# Altium footprint library MLACHQ_S.PCBLIB: 155 footprints (part 1 of 10)
Each footprint in its own frame and in the unit in brackets; x right, y up, seen from the top. Pads: shape width x height; smd on the part's side, far side on the other; paste and mask are expansions set on the pad; w line width, h text height; cw(c..) or ccw(c..) is an arc to the next point about the centre after c.
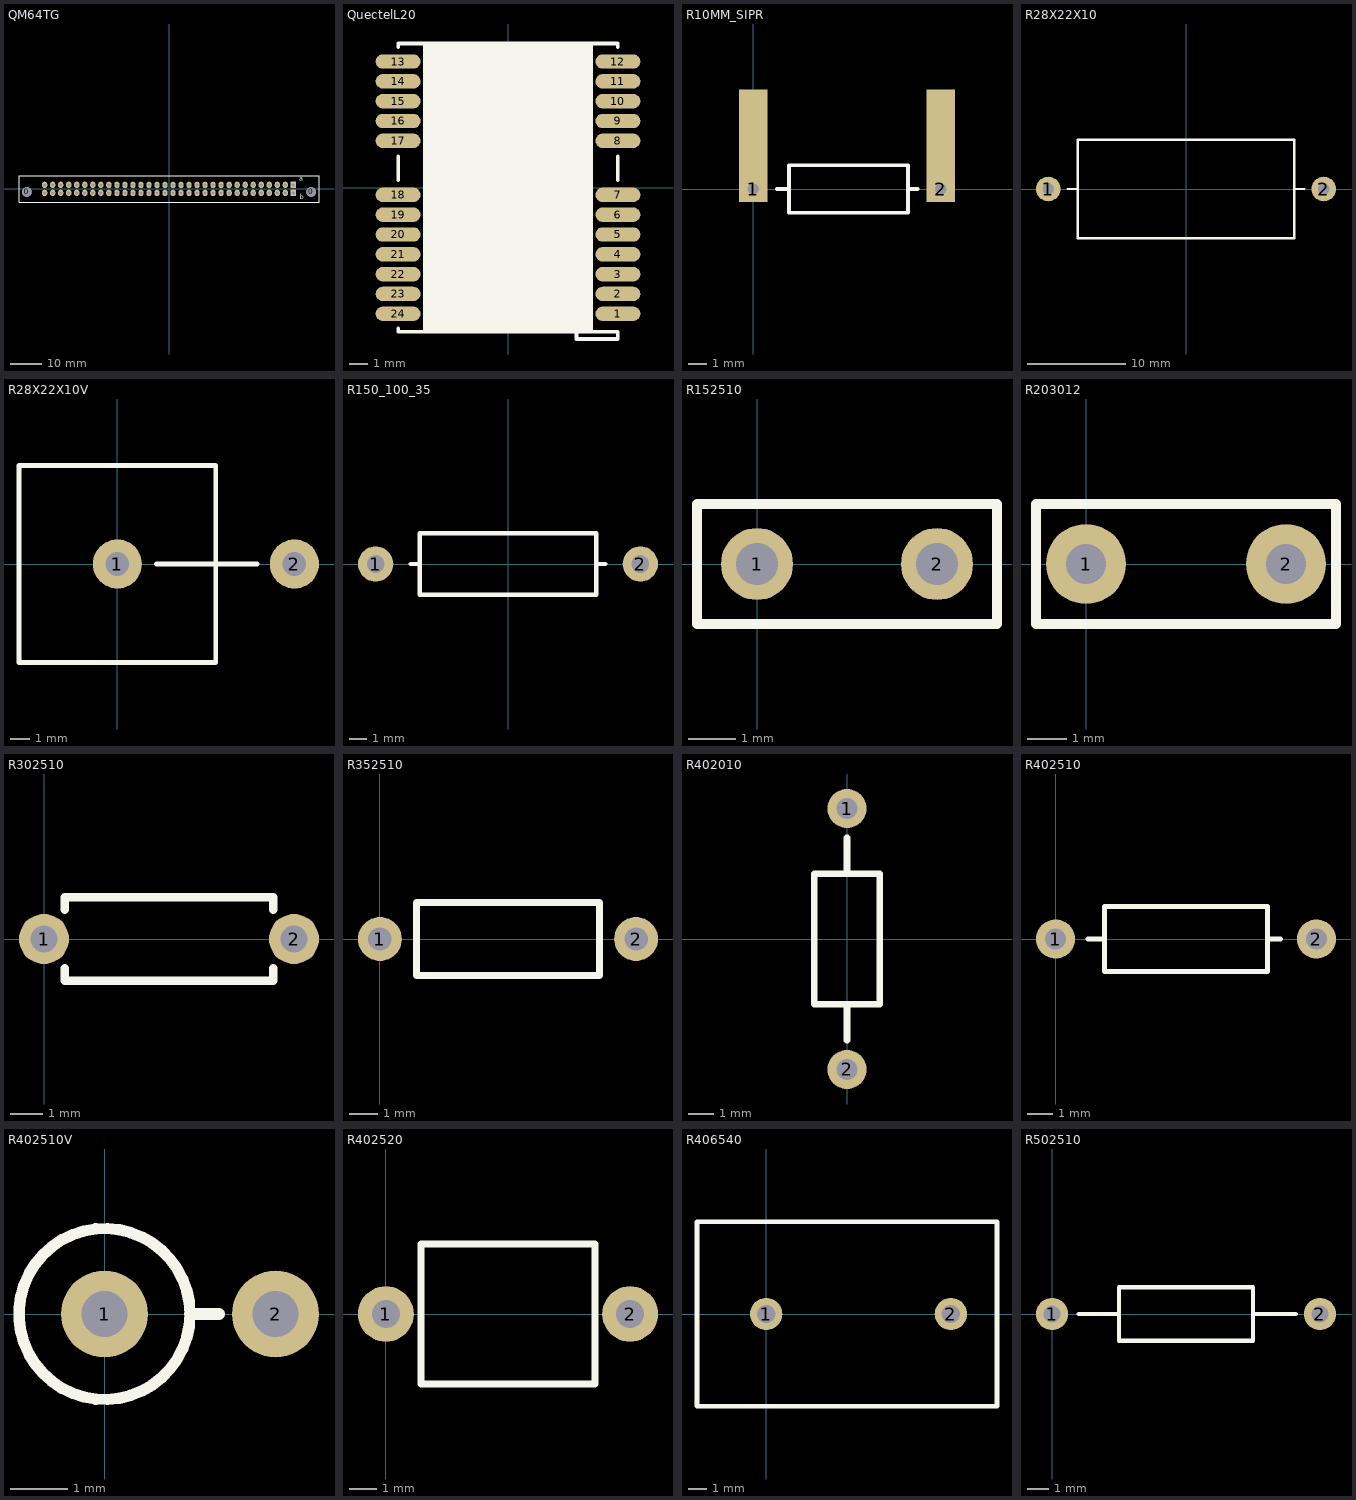
[diagram p0: the footprints below, top view; thin cyan lines are the x and y axes]

## QM64TG [mil]
pads (66):
  round 120 hole 120: 0(-1771.65,-38.19) 0(1771.65,-38.19)
  rect 65x80 hole 40: 1(1550,50) 33(1550,-50)
  oval 65x80 hole 40: 2(1450,50) 3(1350,50) 4(1250,50) 5(1150,50) 6(1050,50) 7(950,50) 8(850,50) 9(750,50) 10(650,50) 11(550,50) 12(450,50) 13(350,50) 14(250,50) 15(150,50) 16(50,50) 17(-50,50) 18(-150,50) 19(-250,50) 20(-350,50) 21(-450,50) 22(-550,50) 23(-650,50) 24(-750,50) 25(-850,50) 26(-950,50) 27(-1050,50) 28(-1150,50) 29(-1250,50) 30(-1350,50) 31(-1450,50) 32(-1550,50) 34(1450,-50) 35(1350,-50) 36(1250,-50) 37(1150,-50) 38(1050,-50) 39(950,-50) 40(850,-50) 41(750,-50) 42(650,-50) 43(550,-50) 44(450,-50) 45(350,-50) 46(250,-50) 47(150,-50) 48(50,-50) 49(-50,-50) 50(-150,-50) 51(-250,-50) 52(-350,-50) 53(-450,-50) 54(-550,-50) 55(-650,-50) 56(-750,-50) 57(-850,-50) 58(-950,-50) 59(-1050,-50) 60(-1150,-50) 61(-1250,-50) 62(-1350,-50) 63(-1450,-50) 64(-1550,-50)
TopOverlay:
  lines w10: -1870.08,-169.29 1870.08,-169.29 1870.08,167.32 -1870.08,167.32 -1870.08,-169.29
  text "b" at 1630.71,-131.1 h60
  text "a" at 1620.87,99.21 h60
3D body: height 453.15, standoff -179.53, extent -1847,-159 1848.08,157.93

## QuectelL20 [mm]
pads (24):
  oval 2.5x0.8 smd: 1(6.1,-7) 2(6.1,-5.9) 3(6.1,-4.8) 4(6.1,-3.7) 5(6.1,-2.6) 6(6.1,-1.5) 7(6.1,-0.4) 8(6.1,2.6) 9(6.1,3.7) 10(6.1,4.8) 11(6.1,5.9) 12(6.1,7) 13(-6.1,7) 14(-6.1,5.9) 15(-6.1,4.8) 16(-6.1,3.7) 17(-6.1,2.6) 18(-6.1,-0.4) 19(-6.1,-1.5) 20(-6.1,-2.6) 21(-6.1,-3.7) 22(-6.1,-4.8) 23(-6.1,-5.9) 24(-6.1,-7)
TopOverlay:
  region: -4.7,8 4.7,8 4.7,-8.05 -4.7,-8.05
  lines w0.2: -6.1,-7.8 -6.1,-8 6.1,-8 6.1,-8.4 3.8,-8.4 3.8,-8 ; -6.1,0.4 -6.1,1.75 ; -6.1,7.8 -6.1,8 6.1,8 6.1,7.8 ; 6.1,0.4 6.1,1.75
3D body: height 2.4, standoff 0.9, extent -5.4,-7.8 5.4,7.8
3D body: height 0.9, standoff 0, extent -6.1,-8 6.1,8

## R10MM_SIPR [mm]
pads (2):
  rect 1.5x6 hole 0.6 copper offset 0,2.3: 1(0,0) 2(10,0)
TopOverlay:
  lines w0.203: 1.27,0 1.905,0 ; 8.255,0 8.763,0 ; 1.905,-1.27 1.905,1.27 8.255,1.27 8.255,-1.27 1.905,-1.27
3D body: height 1.32, standoff 0, extent -0.657,1.5 0.657,5.6
3D body: height 0.96, standoff 0.36, extent 6.5,6.201 10.3,6.799
3D body: height 0.96, standoff 0.36, extent 9.701,3.3 10.299,6.8
3D body: height 0.96, standoff 0.36, extent -0.299,3.3 0.299,6.8
3D body: height 0.96, standoff 0.36, extent -0.3,6.201 3.5,6.799
3D body: height 1.85, standoff -0.54, extent 2,5.301 8.2,7.696
3D body: height 1.95, standoff -0.64, extent 7.2,5.203 7.5,7.798
3D body: height 1.95, standoff -0.64, extent 6.8,5.203 7.1,7.798
3D body: height 1.95, standoff -0.64, extent 6.4,5.203 6.7,7.798
3D body: height 1.95, standoff -0.64, extent 6,5.203 6.3,7.798
3D body: height 0.66, standoff -1.5, extent -0.25,-0.25 0.248,0.249
3D body: height 0.91, standoff 0.41, extent -0.249,-0.25 0.249,4.35
3D body: height 0.91, standoff 0.41, extent 9.751,-0.25 10.249,4.35
3D body: height 0.66, standoff -1.5, extent 9.75,-0.25 10.248,0.249
3D body: height 1.32, standoff 0, extent 9.343,1.5 10.657,5.6

## R28X22X10 [mm]
pads (2):
  round 2.5 hole 1.2: 1(-14,0) 2(14,0)
TopOverlay:
  lines w0.25: -12,0 -11,0 ; 11,0 12,0 ; -11,-5 -11,5 11,5 11,-5 -11,-5
3D body: height 5.37, standoff 4.62, extent 9.4,-0.4 14.4,0.349
3D body: height 5, standoff -3, extent 13.653,-0.374 14.4,0.374
3D body: height 5, standoff -3, extent -14.4,-0.374 -13.653,0.374
3D body: height 5.37, standoff 4.62, extent -14.4,-0.349 -9.4,0.4
3D body: height 10, standoff 0, extent -11,-5 11,5

## R28X22X10V [mm]
pads (2):
  round 2.5 hole 1.2: 1(0,0) 2(9,0)
TopOverlay:
  lines w0.25: 2,0 7.1,0 ; -5,-5 -5,5 5,5 5,-5 -5,-5
3D body: height 26.37, standoff 25.62, extent -0.4,-0.35 9.35,0.399
3D body: height 26, standoff -3, extent 8.626,-0.349 9.374,0.4
3D body: height 26, standoff -3, extent -0.4,-0.374 0.347,0.374
3D body: height 24, standoff 2, extent -5,-5 5,5

## R150_100_35 [mm]
pads (2):
  round 2 hole 1: 1(-7.5,0) 2(7.5,0)
TopOverlay:
  lines w0.254: -5.5,0 -5,0 ; 5,0 5.5,0 ; -5,-1.75 -5,1.75 5,1.75 5,-1.75 -5,-1.75

## R152510 [mil]
pads (2):
  round 60 hole 35: 1(0,0) 2(150,0)
TopOverlay:
  lines w8: -50,-50 -50,50 200,50 200,-50 -50,-50

## R203012 [mil] "Resistor/capacitor 5mm"
pads (2):
  round 80 hole 40: 1(0,0) 2(200,0)
TopOverlay:
  lines w10: -50,-60 250,-60 250,60 -50,60 -50,-60

## R302510 [mil]
pads (2):
  round 60 hole 32: 1(0,0) 2(300,0)
TopOverlay:
  lines w10: 25,-35 25,-50 275,-50 275,-35 ; 25,35 25,50 275,50 275,35

## R352510 [mil]
pads (2):
  round 60 hole 32: 1(0,0) 2(350,0)
TopOverlay:
  lines w10: 50,-50 300,-50 300,50 50,50 50,-50

## R402010 [mil]
pads (2):
  round 60 hole 32: 1(0,200) 2(0,-200)
TopOverlay:
  lines w10: 0,-155 0,-100 ; 0,100 0,155 ; -50,-100 50,-100 50,100 -50,100 -50,-100

## R402510 [mil]
pads (2):
  round 60 hole 32: 1(0,0) 2(400,0)
TopOverlay:
  lines w8: 50,0 75,0 ; 325,0 345,0 ; 75,-50 325,-50 325,50 75,50 75,-50
3D body: height 98.02, standoff -3.94, extent 236.22,-51.08 248.03,51.08
3D body: height 98.02, standoff -3.94, extent 251.97,-51.08 263.78,51.08
3D body: height 98.02, standoff -3.94, extent 267.72,-51.08 279.53,51.08
3D body: height 98.02, standoff -3.94, extent 283.46,-51.08 295.28,51.08
3D body: height 94.12, standoff 0, extent 78.74,-47.24 322.83,47.06
3D body: height 58.96, standoff 35.43, extent 0,-11.81 149.61,11.76
3D body: height 59.06, standoff -78.74, extent -11.76,-11.81 11.76,11.76
3D body: height 59.06, standoff -78.74, extent 388.24,-11.79 411.76,11.79
3D body: height 58.96, standoff 35.43, extent 250.39,-11.79 400,11.79

## R402510V [mil]
pads (2):
  round 60 hole 32: 1(0,0) 2(118.11,0)
TopOverlay:
  circle w7.87: c0,0 r59.06
  lines w8: 59.06,0 79.06,0
3D body: height 110.24, standoff 98.43, extent -51.18,-51.18 50.78,50.98
3D body: height 129.92, standoff 118.11, extent -51.18,-51.18 50.78,50.98
3D body: height 149.61, standoff 137.8, extent -51.18,-51.18 50.78,50.98
3D body: height 169.29, standoff 157.48, extent -51.18,-51.18 50.78,50.98
3D body: height 303.15, standoff 59.06, extent -46.87,-47.24 47.24,47.06
3D body: height 334.65, standoff -78.74, extent -11.76,-11.81 11.76,11.76
3D body: height 334.65, standoff -78.74, extent 104.42,-11.81 127.95,11.76
3D body: height 338.49, standoff 314.96, extent -11.81,-11.79 127.95,11.79

## R402520 [mil]
pads (2):
  round 80 hole 40: 1(0,0) 2(350,0)
TopOverlay:
  lines w10: 50,-100 50,100 300,100 300,-100 50,-100

## R406540 [mil]
pads (2):
  round 70 hole 40: 1(0,0) 2(400,0)
TopOverlay:
  lines w10: -150,-200 -150,200 500,200 500,-200 -150,-200

## R502510 [mil]
pads (2):
  round 60 hole 32: 1(0,0) 2(500,0)
TopOverlay:
  lines w8: 50,0 125,0 ; 375,0 455,0 ; 125,-50 125,50 375,50 375,-50 125,-50